# Altium schematic symbol library DBLS207G Rectifier.SchLib: 1 symbol
Pins are listed as number, name and electrical type; pins without a type are passive.

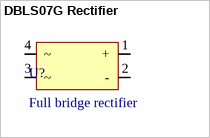
[diagram p0: symbol DBLS07G Rectifier]

## DBLS07G Rectifier
designator U?, comment Full bridge rectifier
farnell: 1299301
footprint SOP500P1010X260-4N (SOP, 4-Leads, Body 8,32x8,35mm, Pitch 5,00mm, IPC Medium Density)
pins: 1 +, 2 -, 3 ~, 4 ~